# Altium footprint library SamacSys.PcbLib: 3 footprints
Each footprint in its own frame and in the unit in brackets; x right, y up, seen from the top. Pads: shape width x height; smd on the part's side, far side on the other; paste and mask are expansions set on the pad; w line width, h text height; cw(c..) or ccw(c..) is an arc to the next point about the centre after c.
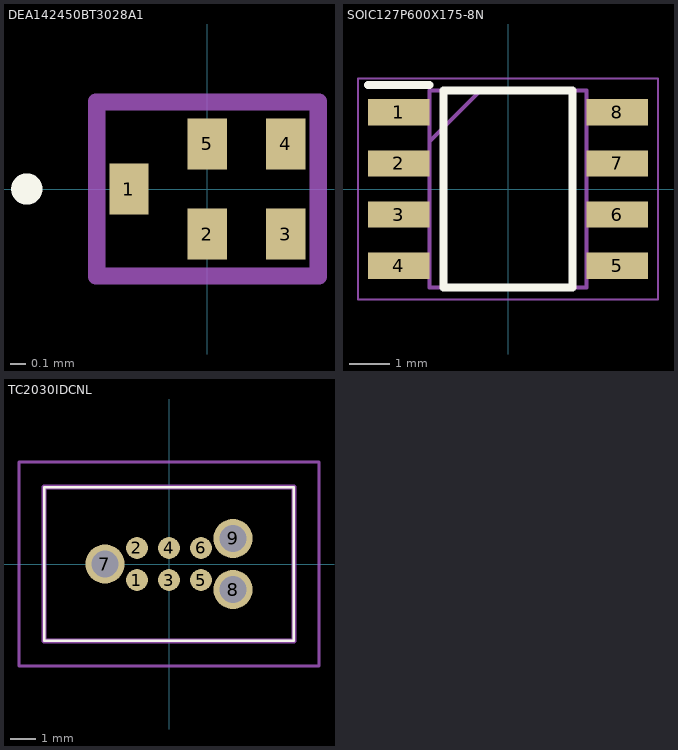
[diagram p0: the footprints below, top view; thin cyan lines are the x and y axes]

## DEA142450BT3028A1 [mm]
pads (5):
  rect 0.25x0.325 smd: 1(-0.5,0) 2(0,-0.287) 3(0.5,-0.287) 4(0.5,0.288) 5(0,0.288)
Top Overlay:
  lines w0.1: -1.2,0 cw(c-1.15,0) -1.1,0 cw(c-1.15,0) -1.2,0
Mechanical 13:
  lines w0.1: -0.7,-0.55 0.7,-0.55 0.7,0.55 -0.7,0.55 -0.7,-0.55
Mechanical 15:
  lines w0.1: -0.711,-0.559 0.711,-0.559 0.711,0.559 -0.711,0.559 -0.711,-0.559
3D body "DEA142450BT-3028A1.stp": height 0.7, standoff 0, extent -0.7,-0.55 0.7,0.55

## SOIC127P600X175-8N [mm]
pads (8):
  rect 1.525x0.65 smd: 1(-2.712,1.905) 2(-2.712,0.635) 3(-2.712,-0.635) 4(-2.712,-1.905) 5(2.712,-1.905) 6(2.712,-0.635) 7(2.712,0.635) 8(2.712,1.905)
Top Overlay:
  lines w0.2: -3.475,2.58 -1.95,2.58 ; -1.6,-2.45 1.6,-2.45 1.6,2.45 -1.6,2.45 -1.6,-2.45
Mechanical 13:
  lines w0.1: -1.95,1.18 -0.68,2.45 ; -1.95,-2.45 1.95,-2.45 1.95,2.45 -1.95,2.45 -1.95,-2.45
Mechanical 15:
  lines w0.05: -3.725,-2.75 3.725,-2.75 3.725,2.75 -3.725,2.75 -3.725,-2.75
3D body "NE555DR.stp": height 1.75, standoff 0, extent -3,-2.45 3,2.45

## TC2030IDCNL [mm]
pads (9):
  round 0.863 smd: 1(-1.27,-0.635) 2(-1.27,0.635) 3(0,-0.635) 4(0,0.635) 5(1.27,-0.635) 6(1.27,0.635)
  round 1.55 hole 1.067: 7(-2.54,0) 8(2.54,-1.016) 9(2.54,1.016)
Top Overlay:
  lines w0.1: -4.953,-3.048 -4.953,3.048 4.953,3.048 4.953,-3.048 -4.953,-3.048
Mechanical 13:
  lines w0.2: -4.953,-3.048 -4.953,3.048 4.953,3.048 4.953,-3.048 -4.953,-3.048
Mechanical 15:
  lines w0.1: -5.953,-4.048 -5.953,4.048 5.953,4.048 5.953,-4.048 -5.953,-4.048
3D body "TC2030-IDC-NL.stp": height 18.77, standoff -5, extent -4.953,-3.048 4.953,3.048